# EAGLE library part PIC18F2580 (library Mes_uC)
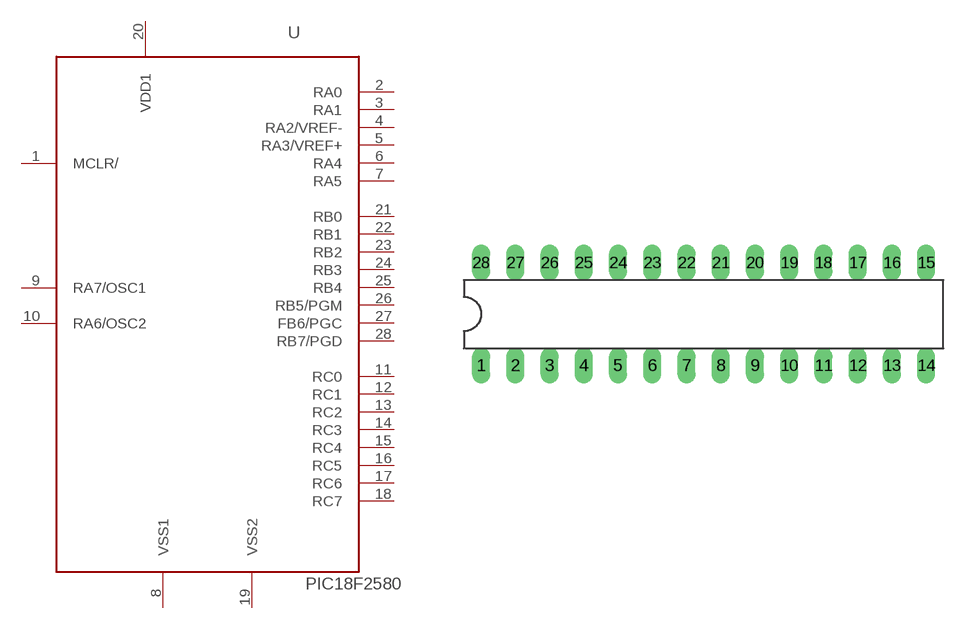
[diagram p4: symbol with the pads of DIP28; footprint DIP28]

Designator prefix U

## PIC18F2580  [DIP28]
1  MCLR/
2  RA0
3  RA1
4  RA2/VREF-
5  RA3/VREF+
6  RA4
7  RA5
8  VSS1
9  RA7/OSC1
10  RA6/OSC2
11  RC0
12  RC1
13  RC2
14  RC3
15  RC4
16  RC5
17  RC6
18  RC7
19  VSS2
20  VDD1
21  RB0
22  RB1
23  RB2
24  RB3
25  RB4
26  RB5/PGM
27  FB6/PGC
28  RB7/PGD

## Footprint DIP28 (pad centres in mm)
drill 0.813 long: 1 -13.97,-3.81; 2 -11.43,-3.81; 3 -8.89,-3.81; 4 -6.35,-3.81; 5 -3.81,-3.81; 6 -1.27,-3.81; 7 1.27,-3.81; 8 3.81,-3.81; 9 6.35,-3.81; 10 8.89,-3.81; 11 11.43,-3.81; 12 13.97,-3.81; 13 16.51,-3.81; 14 19.05,-3.81; 15 19.05,3.81; 16 16.51,3.81; 17 13.97,3.81; 18 11.43,3.81; 19 8.89,3.81; 20 6.35,3.81; 21 3.81,3.81; 22 1.27,3.81; 23 -1.27,3.81; 24 -3.81,3.81; 25 -6.35,3.81; 26 -8.89,3.81; 27 -11.43,3.81; 28 -13.97,3.81